# EAGLE library part LMX2306 (library Jim)
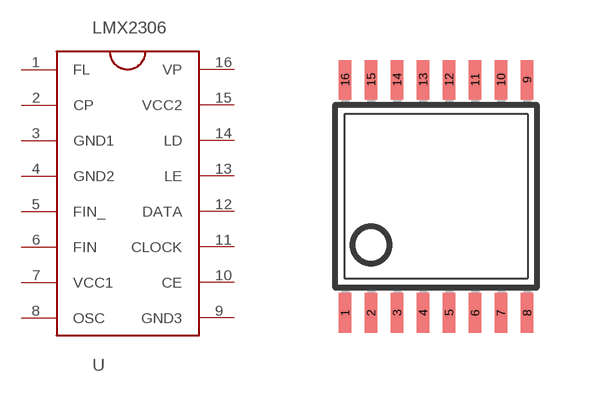
[diagram p3: symbol with the pads of TSSOP16; footprint TSSOP16]

Designator prefix -

## LMX2306  [TSSOP16]
1  FL
2  CP
3  GND1  pwr
4  GND2  pwr
5  FIN_
6  FIN
7  VCC1  pwr
8  OSC
9  GND3  pwr
10  CE
11  CLOCK
12  DATA
13  LE
14  LD
15  VCC2  pwr
16  VP  pwr

## Footprint TSSOP16 (pad centres in mm)
smd 0.305 x 0.991: 1 -2.275,-2.918; 2 -1.625,-2.918; 3 -0.975,-2.918; 4 -0.325,-2.918; 5 0.325,-2.918; 6 0.975,-2.918; 7 1.625,-2.918; 8 2.275,-2.918; 9 2.275,2.918; 10 1.625,2.918; 11 0.975,2.918; 12 0.325,2.918; 13 -0.325,2.918; 14 -0.975,2.918; 15 -1.625,2.918; 16 -2.275,2.918